# Altium integrated library TI Data Converters Digital to Analog Converter.IntLib: 1533 symbols (part 53 of 99)
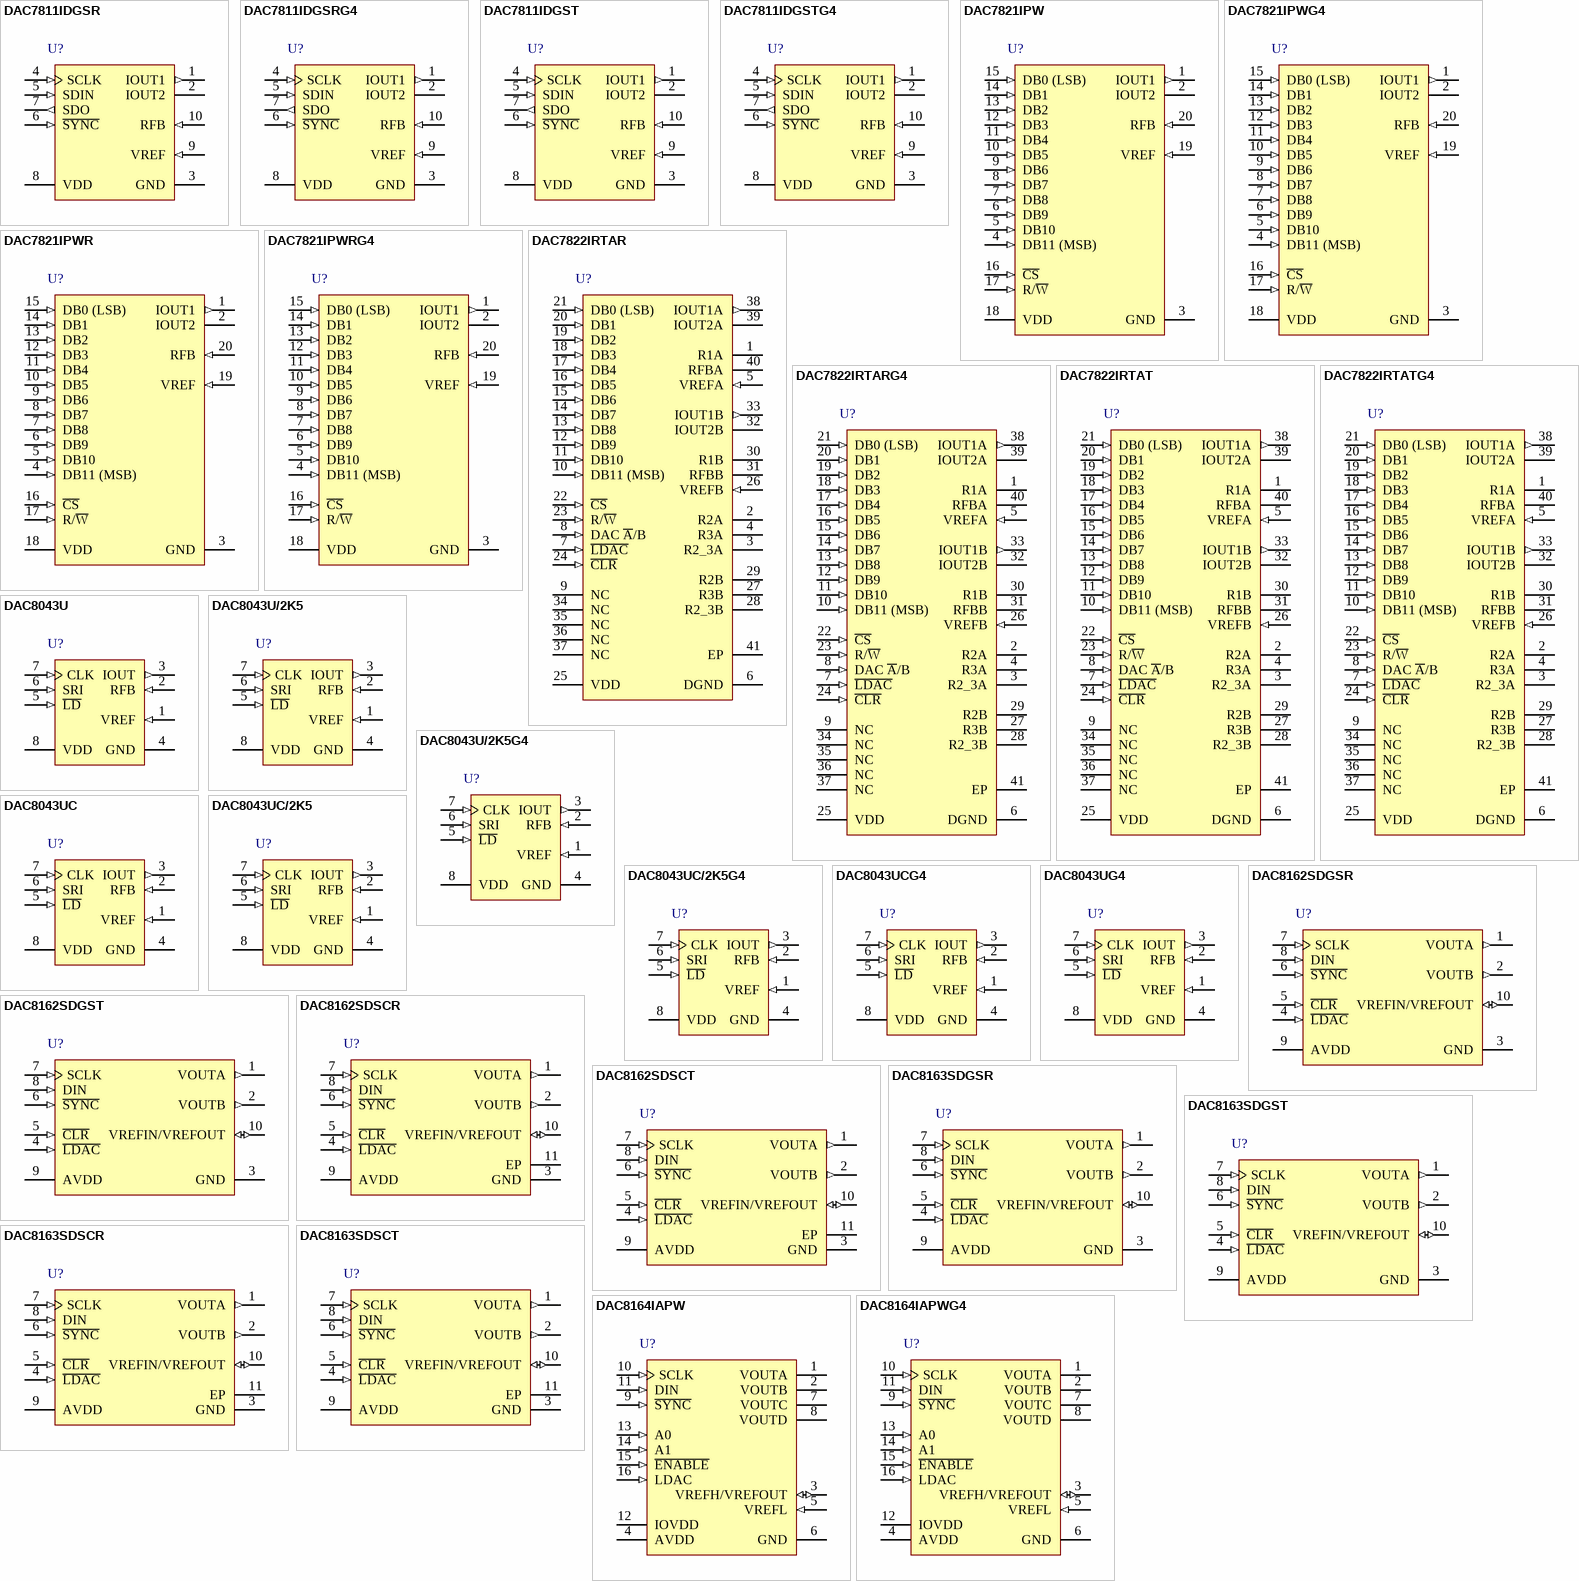
[diagram p125: symbols DAC7811IDGSR to DAC8164IAPWG4]

## DAC7821IPWRG4
designator U?
12-Bit, Parallel Input, Multiplying DAC, -40 to 125 degC, 20-pin SOP (PW20), Green (RoHS & no Sb/Br); Manufacturer: Texas Instruments; PartNumber: DAC7821IPWRG4; DAC Channels: 1; Power Consumption(Typ)(mW): 0.0275; Resolution(Bits): 12; Settling Time(us): 0.2; SubFamily: Precision DAC (=<10MSPS); DatasheetVersion: SBAS365B; PackageVersion: 4040064-5/G, 02/2011; PackageReference: PW20; PackageDescription: 20-Pin Plastic Small Outline, Body 6.5 x 4.4 mm, Pitch 0.65 mm; Supplier 1: Digi-Key; Supplier Part Number 1: DAC7821IPWRG4-ND; Supplier 2: Mouser; Supplier Part Number 2: 595-DAC7821IPWRG4; DNL(Max)(+/-LSB): 1; Eco-Plan: Green (RoHS & no Sb/Br); INL(Max)(+/-LSB): 1; Interface: Parallel; Mounting Technology: Surface Mount; Code_JEDEC: MO-153; ComponentLink1Description: Manufacturer URL; ComponentLink1URL: http://www.ti.com/; ComponentLink2Description: Datasheet; ComponentLink2URL: http://www.ti.com/general/docs/lit/getliterature.tsp?genericPartNumber=DAC7821&fileType=pdf; ComponentLink3Description: Package Specification; ComponentLink3URL: http://www.ti.com.cn/cn/lit/ml/mpds362/mpds362.pdf
footprint TI-PW20_N (SOP, 20-Leads, Body 6.5x4.4mm, Pitch 0.65mm, IPC Medium Density)
footprint TI-PW20_L (SOP, 20-Leads, Body 6.5x4.4mm, Pitch 0.65mm, IPC High Density)
footprint TI-PW20_M (SOP, 20-Leads, Body 6.5x4.4mm, Pitch 0.65mm, IPC Low Density)
pins: 1 IOUT1 (out) "DAC current output", 2 IOUT2 "DAC analog ground. This pin is normally tied to the analog ground of the system", 3 GND (power) "Ground pin.", 4 DB11 (MSB) (in) "Parallel data bits 11 to 0.", 5 DB10 (in) "Parallel data bits 11 to 0.", 6 DB9 (in) "Parallel data bits 11 to 0.", 7 DB8 (in) "Parallel data bits 11 to 0.", 8 DB7 (in) "Parallel data bits 11 to 0.", 9 DB6 (in) "Parallel data bits 11 to 0.", 10 DB5 (in) "Parallel data bits 11 to 0.", 11 DB4 (in) "Parallel data bits 11 to 0.", 12 DB3 (in) "Parallel data bits 11 to 0.", 13 DB2 (in) "Parallel data bits 11 to 0.", 14 DB1 (in) "Parallel data bits 11 to 0.", 15 DB0 (LSB) (in) "Parallel data bits 11 to 0.", 16 ~{CS} (in) "Chip select input. Active low. Used in conjunction with R/W\ to load parallel data to the input latch or read data from the DAC register. Rising edge of C\S\ loads data.", 17 R/~{W} (in) "Read/Write. When low, use in conjunction with C\S\ to load parallel data. When high, use with C\S\ to read back contents of DAC register.", 18 VDD (power) "Positive power supply input. These parts can be operated from a supply of 2.5V to 5.5V.", 19 VREF (in) "DAC reference voltage input", 20 RFB (in) "DAC feedback resistor pin. Establish voltage output for the DAC by connecting to external amplifier output."

## DAC7822IRTAR
designator U?
12-Bit, Dual Channel, Parallel Input, Multiplying DAC, -40 to 125 degC, 40-pin QFN (RTA40), Green (RoHS & no Sb/Br); Manufacturer: Texas Instruments; PartNumber: DAC7822IRTAR; DAC Channels: 2; DNL(Max)(+/-LSB): 1; Power Consumption(Typ)(mW): 0.0275; Resolution(Bits): 12; Settling Time(us): 0.2; SubFamily: Precision DAC (=<10MSPS); DatasheetVersion: SBAS374A; PackageVersion: 4204422/B, 11/2004; PackageReference: RTA40-4150X4150TP; PackageDescription: 40-Pin Plastic Quad Flatpack, Body 6 x 6 mm, Pitch 0.5 mm; Supplier 1: Digi-Key; Supplier Part Number 1: DAC7822IRTAR-ND; Supplier 2: Mouser; Supplier Part Number 2: 595-DAC7822IRTAR; Eco-Plan: Green (RoHS & no Sb/Br); INL(Max)(+/-LSB): 1; Interface: Parallel; Mounting Technology: Surface Mount; ComponentLink1Description: Manufacturer URL; ComponentLink1URL: http://www.ti.com/; ComponentLink2Description: Datasheet; ComponentLink2URL: http://www.ti.com/general/docs/lit/getliterature.tsp?genericPartNumber=DAC7822&fileType=pdf; ComponentLink3Description: Package Specification; ComponentLink3URL: http://www.ti.com/litv/pdf/mpqf134a
footprint TI-RTA40-4150X4150TP_V (QFN, 40-Leads, Body 6x6mm, Pitch 0.5mm, Thermal Pad 4.15x4.15mm)
pins: 1 R1A "DAC A 4-Quadrant Resistors. Allows a number of configuration modes, including bipolar operation with minimum of external components.", 2 R2A "DAC A 4-Quadrant Resistors. Allows a number of configuration modes, including bipolar operation with minimum of external components.", 3 R2_3A "DAC A 4-Quadrant Resistors. Allows a number of configuration modes, including bipolar operation with minimum of external components.", 4 R3A "DAC A 4-Quadrant Resistors. Allows a number of configuration modes, including bipolar operation with minimum of external components.", 5 VREFA (in) "DAC Reference Voltage Input Terminals.", 6 DGND (power) "Digital Ground Pin.", 7 ~{LDAC} (in) "Load DAC Input. Allows asynchronous or synchronous updates to the DAC output. The DAC is asynchronously updated when this signal goes low. Alternatively, if this line is held permanently low, an automatic or synchronous (See Datasheet)", 8 DAC ~{A}/B (in) "Selects DAC A or B. Low selects DAC A, and high selects DAC B.", 9 NC "Not internally connected.", 10 DB11 (MSB) (in) "Parallel Data Bits 11 through 0.", 11 DB10 (in) "Parallel Data Bits 11 through 0.", 12 DB9 (in) "Parallel Data Bits 11 through 0.", 13 DB8 (in) "Parallel Data Bits 11 through 0.", 14 DB7 (in) "Parallel Data Bits 11 through 0.", 15 DB6 (in) "Parallel Data Bits 11 through 0.", 16 DB5 (in) "Parallel Data Bits 11 through 0.", 17 DB4 (in) "Parallel Data Bits 11 through 0.", 18 DB3 (in) "Parallel Data Bits 11 through 0.", 19 DB2 (in) "Parallel Data Bits 11 through 0.", 20 DB1 (in) "Parallel Data Bits 11 through 0.", 21 DB0 (LSB) (in) "Parallel Data Bits 11 through 0.", 22 ~{CS} (in) "Chip Select Input; active low. Used in conjuction with R/W\ to load parallel data to the input latch or to read data from the DAC register. Edge sensitive; when pulled high, the DAC data is latched.", 23 R/~{W} (in) "Read/Write. When low, used in conjunction with C\S\ to load parallel data. When high, used in conjunction with C\S\ to read back contents of DAC register.", 24 ~{CLR} (in) "Active Low Control Input. Clears DAC output and input and DAC registers.", 25 VDD (power) "Positive Power Supply Input. These parts can be operated from a supply of 2.5V to 5.5V.", 26 VREFB (in) "DAC Reference Voltage Input Terminals.", 27 R3B "DAC B 4-Quadrant Resistors. Allow a number of configuration modes, including bipolar operation with a minimum of external components.", 28 R2_3B "DAC B 4-Quadrant Resistors. Allow a number of configuration modes, including bipolar operation with a minimum of external components.", 29 R2B "DAC B 4-Quadrant Resistors. Allow a number of configuration modes, including bipolar operation with a minimum of external components.", 30 R1B "DAC B 4-Quadrant Resistors. Allow a number of configuration modes, including bipolar operation with a minimum of external components.", 31 RFBB "External Amplifier Output.", 32 IOUT2B "DAC A Analog Ground. This pin typically should be tied to the analog ground of the system, but can be biased to achieve single-supply operation.", 33 IOUT1B (out) "DAC B Current Output.", 34 NC "Not internally connected.", 35 NC "Not internally connected.", 36 NC "Not internally connected.", 37 NC "Not internally connected.", 38 IOUT1A (out) "DAC A Current Output.", 39 IOUT2A "DAC A Analog Ground. This pin typically should be tied to the analog ground of the system, but can be biased to achieve single-supply operation.", 40 RFBA "External Amplifier Output.", 41 EP

## DAC7822IRTARG4
designator U?
12-Bit, Dual Channel, Parallel Input, Multiplying DAC, -40 to 125 degC, 40-pin QFN (RTA40), Green (RoHS & no Sb/Br); Manufacturer: Texas Instruments; PartNumber: DAC7822IRTARG4; DAC Channels: 2; DNL(Max)(+/-LSB): 1; Power Consumption(Typ)(mW): 0.0275; Resolution(Bits): 12; Settling Time(us): 0.2; SubFamily: Precision DAC (=<10MSPS); DatasheetVersion: SBAS374A; PackageVersion: 4204422/B, 11/2004; PackageReference: RTA40-4150X4150TP; PackageDescription: 40-Pin Plastic Quad Flatpack, Body 6 x 6 mm, Pitch 0.5 mm; Supplier 1: Digi-Key; Supplier Part Number 1: DAC7822IRTARG4-ND; Supplier 2: Mouser; Supplier Part Number 2: 595-DAC7822IRTARG4; Eco-Plan: Green (RoHS & no Sb/Br); INL(Max)(+/-LSB): 1; Interface: Parallel; Mounting Technology: Surface Mount; ComponentLink1Description: Manufacturer URL; ComponentLink1URL: http://www.ti.com/; ComponentLink2Description: Datasheet; ComponentLink2URL: http://www.ti.com/general/docs/lit/getliterature.tsp?genericPartNumber=DAC7822&fileType=pdf; ComponentLink3Description: Package Specification; ComponentLink3URL: http://www.ti.com/litv/pdf/mpqf134a
footprint TI-RTA40-4150X4150TP_V (QFN, 40-Leads, Body 6x6mm, Pitch 0.5mm, Thermal Pad 4.15x4.15mm)
pins: 1 R1A "DAC A 4-Quadrant Resistors. Allows a number of configuration modes, including bipolar operation with minimum of external components.", 2 R2A "DAC A 4-Quadrant Resistors. Allows a number of configuration modes, including bipolar operation with minimum of external components.", 3 R2_3A "DAC A 4-Quadrant Resistors. Allows a number of configuration modes, including bipolar operation with minimum of external components.", 4 R3A "DAC A 4-Quadrant Resistors. Allows a number of configuration modes, including bipolar operation with minimum of external components.", 5 VREFA (in) "DAC Reference Voltage Input Terminals.", 6 DGND (power) "Digital Ground Pin.", 7 ~{LDAC} (in) "Load DAC Input. Allows asynchronous or synchronous updates to the DAC output. The DAC is asynchronously updated when this signal goes low. Alternatively, if this line is held permanently low, an automatic or synchronous (See Datasheet)", 8 DAC ~{A}/B (in) "Selects DAC A or B. Low selects DAC A, and high selects DAC B.", 9 NC "Not internally connected.", 10 DB11 (MSB) (in) "Parallel Data Bits 11 through 0.", 11 DB10 (in) "Parallel Data Bits 11 through 0.", 12 DB9 (in) "Parallel Data Bits 11 through 0.", 13 DB8 (in) "Parallel Data Bits 11 through 0.", 14 DB7 (in) "Parallel Data Bits 11 through 0.", 15 DB6 (in) "Parallel Data Bits 11 through 0.", 16 DB5 (in) "Parallel Data Bits 11 through 0.", 17 DB4 (in) "Parallel Data Bits 11 through 0.", 18 DB3 (in) "Parallel Data Bits 11 through 0.", 19 DB2 (in) "Parallel Data Bits 11 through 0.", 20 DB1 (in) "Parallel Data Bits 11 through 0.", 21 DB0 (LSB) (in) "Parallel Data Bits 11 through 0.", 22 ~{CS} (in) "Chip Select Input; active low. Used in conjuction with R/W\ to load parallel data to the input latch or to read data from the DAC register. Edge sensitive; when pulled high, the DAC data is latched.", 23 R/~{W} (in) "Read/Write. When low, used in conjunction with C\S\ to load parallel data. When high, used in conjunction with C\S\ to read back contents of DAC register.", 24 ~{CLR} (in) "Active Low Control Input. Clears DAC output and input and DAC registers.", 25 VDD (power) "Positive Power Supply Input. These parts can be operated from a supply of 2.5V to 5.5V.", 26 VREFB (in) "DAC Reference Voltage Input Terminals.", 27 R3B "DAC B 4-Quadrant Resistors. Allow a number of configuration modes, including bipolar operation with a minimum of external components.", 28 R2_3B "DAC B 4-Quadrant Resistors. Allow a number of configuration modes, including bipolar operation with a minimum of external components.", 29 R2B "DAC B 4-Quadrant Resistors. Allow a number of configuration modes, including bipolar operation with a minimum of external components.", 30 R1B "DAC B 4-Quadrant Resistors. Allow a number of configuration modes, including bipolar operation with a minimum of external components.", 31 RFBB "External Amplifier Output.", 32 IOUT2B "DAC A Analog Ground. This pin typically should be tied to the analog ground of the system, but can be biased to achieve single-supply operation.", 33 IOUT1B (out) "DAC B Current Output.", 34 NC "Not internally connected.", 35 NC "Not internally connected.", 36 NC "Not internally connected.", 37 NC "Not internally connected.", 38 IOUT1A (out) "DAC A Current Output.", 39 IOUT2A "DAC A Analog Ground. This pin typically should be tied to the analog ground of the system, but can be biased to achieve single-supply operation.", 40 RFBA "External Amplifier Output.", 41 EP

## DAC7822IRTAT
designator U?
12-Bit, Dual Channel, Parallel Input, Multiplying DAC, -40 to 125 degC, 40-pin QFN (RTA40), Green (RoHS & no Sb/Br); Manufacturer: Texas Instruments; PartNumber: DAC7822IRTAT; DAC Channels: 2; DNL(Max)(+/-LSB): 1; Power Consumption(Typ)(mW): 0.0275; Resolution(Bits): 12; Settling Time(us): 0.2; SubFamily: Precision DAC (=<10MSPS); DatasheetVersion: SBAS374A; PackageVersion: 4204422/B, 11/2004; PackageReference: RTA40-4150X4150TP; PackageDescription: 40-Pin Plastic Quad Flatpack, Body 6 x 6 mm, Pitch 0.5 mm; Supplier 1: Digi-Key; Supplier Part Number 1: 296-20636-2-ND; Supplier 2: Digi-Key; Supplier Part Number 2: 296-20636-1-ND; Supplier 3: Newark; Supplier Part Number 3: 02M9392; Supplier 4: Mouser; Supplier Part Number 4: 595-DAC7822IRTAT; Eco-Plan: Green (RoHS & no Sb/Br); INL(Max)(+/-LSB): 1; Interface: Parallel; Mounting Technology: Surface Mount; ComponentLink1Description: Manufacturer URL; ComponentLink1URL: http://www.ti.com/; ComponentLink2Description: Datasheet; ComponentLink2URL: http://www.ti.com/general/docs/lit/getliterature.tsp?genericPartNumber=DAC7822&fileType=pdf; ComponentLink3Description: Package Specification; ComponentLink3URL: http://www.ti.com/litv/pdf/mpqf134a
footprint TI-RTA40-4150X4150TP_V (QFN, 40-Leads, Body 6x6mm, Pitch 0.5mm, Thermal Pad 4.15x4.15mm)
pins: 1 R1A "DAC A 4-Quadrant Resistors. Allows a number of configuration modes, including bipolar operation with minimum of external components.", 2 R2A "DAC A 4-Quadrant Resistors. Allows a number of configuration modes, including bipolar operation with minimum of external components.", 3 R2_3A "DAC A 4-Quadrant Resistors. Allows a number of configuration modes, including bipolar operation with minimum of external components.", 4 R3A "DAC A 4-Quadrant Resistors. Allows a number of configuration modes, including bipolar operation with minimum of external components.", 5 VREFA (in) "DAC Reference Voltage Input Terminals.", 6 DGND (power) "Digital Ground Pin.", 7 ~{LDAC} (in) "Load DAC Input. Allows asynchronous or synchronous updates to the DAC output. The DAC is asynchronously updated when this signal goes low. Alternatively, if this line is held permanently low, an automatic or synchronous (See Datasheet)", 8 DAC ~{A}/B (in) "Selects DAC A or B. Low selects DAC A, and high selects DAC B.", 9 NC "Not internally connected.", 10 DB11 (MSB) (in) "Parallel Data Bits 11 through 0.", 11 DB10 (in) "Parallel Data Bits 11 through 0.", 12 DB9 (in) "Parallel Data Bits 11 through 0.", 13 DB8 (in) "Parallel Data Bits 11 through 0.", 14 DB7 (in) "Parallel Data Bits 11 through 0.", 15 DB6 (in) "Parallel Data Bits 11 through 0.", 16 DB5 (in) "Parallel Data Bits 11 through 0.", 17 DB4 (in) "Parallel Data Bits 11 through 0.", 18 DB3 (in) "Parallel Data Bits 11 through 0.", 19 DB2 (in) "Parallel Data Bits 11 through 0.", 20 DB1 (in) "Parallel Data Bits 11 through 0.", 21 DB0 (LSB) (in) "Parallel Data Bits 11 through 0.", 22 ~{CS} (in) "Chip Select Input; active low. Used in conjuction with R/W\ to load parallel data to the input latch or to read data from the DAC register. Edge sensitive; when pulled high, the DAC data is latched.", 23 R/~{W} (in) "Read/Write. When low, used in conjunction with C\S\ to load parallel data. When high, used in conjunction with C\S\ to read back contents of DAC register.", 24 ~{CLR} (in) "Active Low Control Input. Clears DAC output and input and DAC registers.", 25 VDD (power) "Positive Power Supply Input. These parts can be operated from a supply of 2.5V to 5.5V.", 26 VREFB (in) "DAC Reference Voltage Input Terminals.", 27 R3B "DAC B 4-Quadrant Resistors. Allow a number of configuration modes, including bipolar operation with a minimum of external components.", 28 R2_3B "DAC B 4-Quadrant Resistors. Allow a number of configuration modes, including bipolar operation with a minimum of external components.", 29 R2B "DAC B 4-Quadrant Resistors. Allow a number of configuration modes, including bipolar operation with a minimum of external components.", 30 R1B "DAC B 4-Quadrant Resistors. Allow a number of configuration modes, including bipolar operation with a minimum of external components.", 31 RFBB "External Amplifier Output.", 32 IOUT2B "DAC A Analog Ground. This pin typically should be tied to the analog ground of the system, but can be biased to achieve single-supply operation.", 33 IOUT1B (out) "DAC B Current Output.", 34 NC "Not internally connected.", 35 NC "Not internally connected.", 36 NC "Not internally connected.", 37 NC "Not internally connected.", 38 IOUT1A (out) "DAC A Current Output.", 39 IOUT2A "DAC A Analog Ground. This pin typically should be tied to the analog ground of the system, but can be biased to achieve single-supply operation.", 40 RFBA "External Amplifier Output.", 41 EP

## DAC7822IRTATG4
designator U?
12-Bit, Dual Channel, Parallel Input, Multiplying DAC, -40 to 125 degC, 40-pin QFN (RTA40), Green (RoHS & no Sb/Br); Manufacturer: Texas Instruments; PartNumber: DAC7822IRTATG4; DAC Channels: 2; DNL(Max)(+/-LSB): 1; Power Consumption(Typ)(mW): 0.0275; Resolution(Bits): 12; Settling Time(us): 0.2; SubFamily: Precision DAC (=<10MSPS); DatasheetVersion: SBAS374A; PackageVersion: 4204422/B, 11/2004; PackageReference: RTA40-4150X4150TP; PackageDescription: 40-Pin Plastic Quad Flatpack, Body 6 x 6 mm, Pitch 0.5 mm; Supplier 1: Digi-Key; Supplier Part Number 1: DAC7822IRTATG4-ND; Supplier 2: Farnell; Supplier Part Number 2: 1390690; Supplier 3: Mouser; Supplier Part Number 3: 595-DAC7822IRTATG4; Eco-Plan: Green (RoHS & no Sb/Br); INL(Max)(+/-LSB): 1; Interface: Parallel; Mounting Technology: Surface Mount; ComponentLink1Description: Manufacturer URL; ComponentLink1URL: http://www.ti.com/; ComponentLink2Description: Datasheet; ComponentLink2URL: http://www.ti.com/general/docs/lit/getliterature.tsp?genericPartNumber=DAC7822&fileType=pdf; ComponentLink3Description: Package Specification; ComponentLink3URL: http://www.ti.com/litv/pdf/mpqf134a
footprint TI-RTA40-4150X4150TP_V (QFN, 40-Leads, Body 6x6mm, Pitch 0.5mm, Thermal Pad 4.15x4.15mm)
pins: 1 R1A "DAC A 4-Quadrant Resistors. Allows a number of configuration modes, including bipolar operation with minimum of external components.", 2 R2A "DAC A 4-Quadrant Resistors. Allows a number of configuration modes, including bipolar operation with minimum of external components.", 3 R2_3A "DAC A 4-Quadrant Resistors. Allows a number of configuration modes, including bipolar operation with minimum of external components.", 4 R3A "DAC A 4-Quadrant Resistors. Allows a number of configuration modes, including bipolar operation with minimum of external components.", 5 VREFA (in) "DAC Reference Voltage Input Terminals.", 6 DGND (power) "Digital Ground Pin.", 7 ~{LDAC} (in) "Load DAC Input. Allows asynchronous or synchronous updates to the DAC output. The DAC is asynchronously updated when this signal goes low. Alternatively, if this line is held permanently low, an automatic or synchronous (See Datasheet)", 8 DAC ~{A}/B (in) "Selects DAC A or B. Low selects DAC A, and high selects DAC B.", 9 NC "Not internally connected.", 10 DB11 (MSB) (in) "Parallel Data Bits 11 through 0.", 11 DB10 (in) "Parallel Data Bits 11 through 0.", 12 DB9 (in) "Parallel Data Bits 11 through 0.", 13 DB8 (in) "Parallel Data Bits 11 through 0.", 14 DB7 (in) "Parallel Data Bits 11 through 0.", 15 DB6 (in) "Parallel Data Bits 11 through 0.", 16 DB5 (in) "Parallel Data Bits 11 through 0.", 17 DB4 (in) "Parallel Data Bits 11 through 0.", 18 DB3 (in) "Parallel Data Bits 11 through 0.", 19 DB2 (in) "Parallel Data Bits 11 through 0.", 20 DB1 (in) "Parallel Data Bits 11 through 0.", 21 DB0 (LSB) (in) "Parallel Data Bits 11 through 0.", 22 ~{CS} (in) "Chip Select Input; active low. Used in conjuction with R/W\ to load parallel data to the input latch or to read data from the DAC register. Edge sensitive; when pulled high, the DAC data is latched.", 23 R/~{W} (in) "Read/Write. When low, used in conjunction with C\S\ to load parallel data. When high, used in conjunction with C\S\ to read back contents of DAC register.", 24 ~{CLR} (in) "Active Low Control Input. Clears DAC output and input and DAC registers.", 25 VDD (power) "Positive Power Supply Input. These parts can be operated from a supply of 2.5V to 5.5V.", 26 VREFB (in) "DAC Reference Voltage Input Terminals.", 27 R3B "DAC B 4-Quadrant Resistors. Allow a number of configuration modes, including bipolar operation with a minimum of external components.", 28 R2_3B "DAC B 4-Quadrant Resistors. Allow a number of configuration modes, including bipolar operation with a minimum of external components.", 29 R2B "DAC B 4-Quadrant Resistors. Allow a number of configuration modes, including bipolar operation with a minimum of external components.", 30 R1B "DAC B 4-Quadrant Resistors. Allow a number of configuration modes, including bipolar operation with a minimum of external components.", 31 RFBB "External Amplifier Output.", 32 IOUT2B "DAC A Analog Ground. This pin typically should be tied to the analog ground of the system, but can be biased to achieve single-supply operation.", 33 IOUT1B (out) "DAC B Current Output.", 34 NC "Not internally connected.", 35 NC "Not internally connected.", 36 NC "Not internally connected.", 37 NC "Not internally connected.", 38 IOUT1A (out) "DAC A Current Output.", 39 IOUT2A "DAC A Analog Ground. This pin typically should be tied to the analog ground of the system, but can be biased to achieve single-supply operation.", 40 RFBA "External Amplifier Output.", 41 EP

## DAC8043U
designator U?
CMOS 12-Bit Serial Input Mulitplying DAC, -40 to 85 degC, 8-pin SOIC (D8), Green (RoHS & no Sb/Br); Manufacturer: Texas Instruments; PartNumber: DAC8043U; DAC Channels: 1; Interface: Serial SPI; Power Consumption(Typ)(mW): 2.5; Resolution(Bits): 12; Settling Time(us): 0.25; SubFamily: Precision DAC (=<10MSPS); DatasheetVersion: SBAS028; PackageVersion: 4040047-3/M, 06/2011; PackageReference: D8; PackageDescription: 8-Pin Plastic Small Outline, Body 4.9 x 3.9 mm, Pitch 1.27 mm; Supplier 1: Digi-Key; Supplier Part Number 1: DAC8043U-ND; Supplier 2: Newark; Supplier Part Number 2: 17M6576; Supplier 3: Mouser; Supplier Part Number 3: 595-DAC8043U; DNL(Max)(+/-LSB): 1; Eco-Plan: Green (RoHS & no Sb/Br); INL(Max)(+/-LSB): 1; Mounting Technology: Surface Mount; Code_JEDEC: MS-012; ComponentLink1Description: Manufacturer URL; ComponentLink1URL: http://www.ti.com/; ComponentLink2Description: Datasheet; ComponentLink2URL: http://www.ti.com/general/docs/lit/getliterature.tsp?genericPartNumber=DAC8043&fileType=pdf; ComponentLink3Description: Package Specification; ComponentLink3URL: http://www.ti.com/litv/pdf/msoi002j
footprint TI-D8_N (SOIC, 8-Leads, Body 4.9x3.9mm, Pitch 1.27mm, IPC Medium Density)
footprint TI-D8_L (SOIC, 8-Leads, Body 4.9x3.9mm, Pitch 1.27mm, IPC High Density)
footprint TI-D8_M (SOIC, 8-Leads, Body 4.9x3.9mm, Pitch 1.27mm, IPC Low Density)
pins: 1 VREF (in), 2 RFB (in), 3 IOUT (out), 4 GND (power), 5 ~{LD} (in), 6 SRI (in), 7 CLK (in), 8 VDD (power)

## DAC8043U/2K5
designator U?
CMOS 12-Bit Serial Input Mulitplying DAC, -40 to 85 degC, 8-pin SOIC (D8), Green (RoHS & no Sb/Br); Manufacturer: Texas Instruments; PartNumber: DAC8043U/2K5; DAC Channels: 1; Interface: Serial SPI; Power Consumption(Typ)(mW): 2.5; Resolution(Bits): 12; Settling Time(us): 0.25; SubFamily: Precision DAC (=<10MSPS); DatasheetVersion: SBAS028; PackageVersion: 4040047-3/M, 06/2011; PackageReference: D8; PackageDescription: 8-Pin Plastic Small Outline, Body 4.9 x 3.9 mm, Pitch 1.27 mm; Supplier 1: Digi-Key; Supplier Part Number 1: DAC8043U/2K5-ND; Supplier 2: Newark; Supplier Part Number 2: 61H5072; Supplier 3: Mouser; Supplier Part Number 3: 595-DAC8043U/2K5; DNL(Max)(+/-LSB): 1; Eco-Plan: Green (RoHS & no Sb/Br); INL(Max)(+/-LSB): 1; Mounting Technology: Surface Mount; Code_JEDEC: MS-012; ComponentLink1Description: Manufacturer URL; ComponentLink1URL: http://www.ti.com/; ComponentLink2Description: Datasheet; ComponentLink2URL: http://www.ti.com/general/docs/lit/getliterature.tsp?genericPartNumber=DAC8043&fileType=pdf; ComponentLink3Description: Package Specification; ComponentLink3URL: http://www.ti.com/litv/pdf/msoi002j
footprint TI-D8_N (SOIC, 8-Leads, Body 4.9x3.9mm, Pitch 1.27mm, IPC Medium Density)
footprint TI-D8_L (SOIC, 8-Leads, Body 4.9x3.9mm, Pitch 1.27mm, IPC High Density)
footprint TI-D8_M (SOIC, 8-Leads, Body 4.9x3.9mm, Pitch 1.27mm, IPC Low Density)
pins: 1 VREF (in), 2 RFB (in), 3 IOUT (out), 4 GND (power), 5 ~{LD} (in), 6 SRI (in), 7 CLK (in), 8 VDD (power)

## DAC8043U/2K5G4
designator U?
CMOS 12-Bit Serial Input Mulitplying DAC, -40 to 85 degC, 8-pin SOIC (D8), Green (RoHS & no Sb/Br); Manufacturer: Texas Instruments; PartNumber: DAC8043U/2K5G4; DAC Channels: 1; Interface: Serial SPI; Power Consumption(Typ)(mW): 2.5; Resolution(Bits): 12; Settling Time(us): 0.25; SubFamily: Precision DAC (=<10MSPS); DatasheetVersion: SBAS028; PackageVersion: 4040047-3/M, 06/2011; PackageReference: D8; PackageDescription: 8-Pin Plastic Small Outline, Body 4.9 x 3.9 mm, Pitch 1.27 mm; Supplier 1: Digi-Key; Supplier Part Number 1: DAC8043U/2K5G4-ND; Supplier 2: Newark; Supplier Part Number 2: 14M1952; Supplier 3: Mouser; Supplier Part Number 3: 595-DAC8043U/2K5G4; DNL(Max)(+/-LSB): 1; Eco-Plan: Green (RoHS & no Sb/Br); INL(Max)(+/-LSB): 1; Mounting Technology: Surface Mount; Code_JEDEC: MS-012; ComponentLink1Description: Manufacturer URL; ComponentLink1URL: http://www.ti.com/; ComponentLink2Description: Datasheet; ComponentLink2URL: http://www.ti.com/general/docs/lit/getliterature.tsp?genericPartNumber=DAC8043&fileType=pdf; ComponentLink3Description: Package Specification; ComponentLink3URL: http://www.ti.com/litv/pdf/msoi002j
footprint TI-D8_N (SOIC, 8-Leads, Body 4.9x3.9mm, Pitch 1.27mm, IPC Medium Density)
footprint TI-D8_L (SOIC, 8-Leads, Body 4.9x3.9mm, Pitch 1.27mm, IPC High Density)
footprint TI-D8_M (SOIC, 8-Leads, Body 4.9x3.9mm, Pitch 1.27mm, IPC Low Density)
pins: 1 VREF (in), 2 RFB (in), 3 IOUT (out), 4 GND (power), 5 ~{LD} (in), 6 SRI (in), 7 CLK (in), 8 VDD (power)

## DAC8043UC
designator U?
CMOS 12-Bit Serial Input Mulitplying DAC, -40 to 85 degC, 8-pin SOIC (D8), Green (RoHS & no Sb/Br); Manufacturer: Texas Instruments; PartNumber: DAC8043UC; DAC Channels: 1; DNL(Max)(+/-LSB): 0.5; Interface: Serial SPI; Power Consumption(Typ)(mW): 2.5; Resolution(Bits): 12; Settling Time(us): 0.25; SubFamily: Precision DAC (=<10MSPS); DatasheetVersion: SBAS028; PackageVersion: 4040047-3/M, 06/2011; PackageReference: D8; PackageDescription: 8-Pin Plastic Small Outline, Body 4.9 x 3.9 mm, Pitch 1.27 mm; Supplier 1: Digi-Key; Supplier Part Number 1: DAC8043UC-ND; Supplier 2: Farnell; Supplier Part Number 2: 1460245; Supplier 3: Newark; Supplier Part Number 3: 35C1661; Supplier 4: Mouser; Supplier Part Number 4: 595-DAC8043UC; Eco-Plan: Green (RoHS & no Sb/Br); INL(Max)(+/-LSB): 0.5; Mounting Technology: Surface Mount; Code_JEDEC: MS-012; ComponentLink1Description: Manufacturer URL; ComponentLink1URL: http://www.ti.com/; ComponentLink2Description: Datasheet; ComponentLink2URL: http://www.ti.com/general/docs/lit/getliterature.tsp?genericPartNumber=DAC8043&fileType=pdf; ComponentLink3Description: Package Specification; ComponentLink3URL: http://www.ti.com/litv/pdf/msoi002j
footprint TI-D8_N (SOIC, 8-Leads, Body 4.9x3.9mm, Pitch 1.27mm, IPC Medium Density)
footprint TI-D8_L (SOIC, 8-Leads, Body 4.9x3.9mm, Pitch 1.27mm, IPC High Density)
footprint TI-D8_M (SOIC, 8-Leads, Body 4.9x3.9mm, Pitch 1.27mm, IPC Low Density)
pins: 1 VREF (in), 2 RFB (in), 3 IOUT (out), 4 GND (power), 5 ~{LD} (in), 6 SRI (in), 7 CLK (in), 8 VDD (power)

## DAC8043UC/2K5
designator U?
CMOS 12-Bit Serial Input Mulitplying DAC, -40 to 85 degC, 8-pin SOIC (D8), Green (RoHS & no Sb/Br); Manufacturer: Texas Instruments; PartNumber: DAC8043UC/2K5; DAC Channels: 1; DNL(Max)(+/-LSB): 0.5; Interface: Serial SPI; Power Consumption(Typ)(mW): 2.5; Resolution(Bits): 12; Settling Time(us): 0.25; SubFamily: Precision DAC (=<10MSPS); DatasheetVersion: SBAS028; PackageVersion: 4040047-3/M, 06/2011; PackageReference: D8; PackageDescription: 8-Pin Plastic Small Outline, Body 4.9 x 3.9 mm, Pitch 1.27 mm; Supplier 1: Digi-Key; Supplier Part Number 1: DAC8043UC/2K5-ND; Supplier 2: Newark; Supplier Part Number 2: 61H5073; Supplier 3: Mouser; Supplier Part Number 3: 595-DAC8043UC/2K5; Eco-Plan: Green (RoHS & no Sb/Br); INL(Max)(+/-LSB): 0.5; Mounting Technology: Surface Mount; Code_JEDEC: MS-012; ComponentLink1Description: Manufacturer URL; ComponentLink1URL: http://www.ti.com/; ComponentLink2Description: Datasheet; ComponentLink2URL: http://www.ti.com/general/docs/lit/getliterature.tsp?genericPartNumber=DAC8043&fileType=pdf; ComponentLink3Description: Package Specification; ComponentLink3URL: http://www.ti.com/litv/pdf/msoi002j
footprint TI-D8_N (SOIC, 8-Leads, Body 4.9x3.9mm, Pitch 1.27mm, IPC Medium Density)
footprint TI-D8_L (SOIC, 8-Leads, Body 4.9x3.9mm, Pitch 1.27mm, IPC High Density)
footprint TI-D8_M (SOIC, 8-Leads, Body 4.9x3.9mm, Pitch 1.27mm, IPC Low Density)
pins: 1 VREF (in), 2 RFB (in), 3 IOUT (out), 4 GND (power), 5 ~{LD} (in), 6 SRI (in), 7 CLK (in), 8 VDD (power)

## DAC8043UC/2K5G4
designator U?
CMOS 12-Bit Serial Input Mulitplying DAC, -40 to 85 degC, 8-pin SOIC (D8), Green (RoHS & no Sb/Br); Manufacturer: Texas Instruments; PartNumber: DAC8043UC/2K5G4; DAC Channels: 1; DNL(Max)(+/-LSB): 0.5; Interface: Serial SPI; Power Consumption(Typ)(mW): 2.5; Resolution(Bits): 12; Settling Time(us): 0.25; SubFamily: Precision DAC (=<10MSPS); DatasheetVersion: SBAS028; PackageVersion: 4040047-3/M, 06/2011; PackageReference: D8; PackageDescription: 8-Pin Plastic Small Outline, Body 4.9 x 3.9 mm, Pitch 1.27 mm; Supplier 1: Digi-Key; Supplier Part Number 1: DAC8043UC/2K5G4-ND; Supplier 2: Newark; Supplier Part Number 2: 30M0654; Supplier 3: Mouser; Supplier Part Number 3: 595-DAC8043UC/2K5G4; Eco-Plan: Green (RoHS & no Sb/Br); INL(Max)(+/-LSB): 0.5; Mounting Technology: Surface Mount; Code_JEDEC: MS-012; ComponentLink1Description: Manufacturer URL; ComponentLink1URL: http://www.ti.com/; ComponentLink2Description: Datasheet; ComponentLink2URL: http://www.ti.com/general/docs/lit/getliterature.tsp?genericPartNumber=DAC8043&fileType=pdf; ComponentLink3Description: Package Specification; ComponentLink3URL: http://www.ti.com/litv/pdf/msoi002j
footprint TI-D8_N (SOIC, 8-Leads, Body 4.9x3.9mm, Pitch 1.27mm, IPC Medium Density)
footprint TI-D8_L (SOIC, 8-Leads, Body 4.9x3.9mm, Pitch 1.27mm, IPC High Density)
footprint TI-D8_M (SOIC, 8-Leads, Body 4.9x3.9mm, Pitch 1.27mm, IPC Low Density)
pins: 1 VREF (in), 2 RFB (in), 3 IOUT (out), 4 GND (power), 5 ~{LD} (in), 6 SRI (in), 7 CLK (in), 8 VDD (power)

## DAC8043UCG4
designator U?
CMOS 12-Bit Serial Input Mulitplying DAC, -40 to 85 degC, 8-pin SOIC (D8), Green (RoHS & no Sb/Br); Manufacturer: Texas Instruments; PartNumber: DAC8043UCG4; DAC Channels: 1; DNL(Max)(+/-LSB): 0.5; Interface: Serial SPI; Power Consumption(Typ)(mW): 2.5; Resolution(Bits): 12; Settling Time(us): 0.25; SubFamily: Precision DAC (=<10MSPS); DatasheetVersion: SBAS028; PackageVersion: 4040047-3/M, 06/2011; PackageReference: D8; PackageDescription: 8-Pin Plastic Small Outline, Body 4.9 x 3.9 mm, Pitch 1.27 mm; Supplier 1: Digi-Key; Supplier Part Number 1: DAC8043UCG4-ND; Supplier 2: Newark; Supplier Part Number 2: 60M1640; Supplier 3: Mouser; Supplier Part Number 3: 595-DAC8043UCG4; Eco-Plan: Green (RoHS & no Sb/Br); INL(Max)(+/-LSB): 0.5; Mounting Technology: Surface Mount; Code_JEDEC: MS-012; ComponentLink1Description: Manufacturer URL; ComponentLink1URL: http://www.ti.com/; ComponentLink2Description: Datasheet; ComponentLink2URL: http://www.ti.com/general/docs/lit/getliterature.tsp?genericPartNumber=DAC8043&fileType=pdf; ComponentLink3Description: Package Specification; ComponentLink3URL: http://www.ti.com/litv/pdf/msoi002j
footprint TI-D8_N (SOIC, 8-Leads, Body 4.9x3.9mm, Pitch 1.27mm, IPC Medium Density)
footprint TI-D8_L (SOIC, 8-Leads, Body 4.9x3.9mm, Pitch 1.27mm, IPC High Density)
footprint TI-D8_M (SOIC, 8-Leads, Body 4.9x3.9mm, Pitch 1.27mm, IPC Low Density)
pins: 1 VREF (in), 2 RFB (in), 3 IOUT (out), 4 GND (power), 5 ~{LD} (in), 6 SRI (in), 7 CLK (in), 8 VDD (power)

## DAC8043UG4
designator U?
CMOS 12-Bit Serial Input Mulitplying DAC, -40 to 85 degC, 8-pin SOIC (D8), Green (RoHS & no Sb/Br); Manufacturer: Texas Instruments; PartNumber: DAC8043UG4; DAC Channels: 1; Interface: Serial SPI; Power Consumption(Typ)(mW): 2.5; Resolution(Bits): 12; Settling Time(us): 0.25; SubFamily: Precision DAC (=<10MSPS); DatasheetVersion: SBAS028; PackageVersion: 4040047-3/M, 06/2011; PackageReference: D8; PackageDescription: 8-Pin Plastic Small Outline, Body 4.9 x 3.9 mm, Pitch 1.27 mm; Supplier 1: Digi-Key; Supplier Part Number 1: DAC8043UG4-ND; Supplier 2: Newark; Supplier Part Number 2: 14M1953; Supplier 3: Mouser; Supplier Part Number 3: 595-DAC8043UG4; DNL(Max)(+/-LSB): 1; Eco-Plan: Green (RoHS & no Sb/Br); INL(Max)(+/-LSB): 1; Mounting Technology: Surface Mount; Code_JEDEC: MS-012; ComponentLink1Description: Manufacturer URL; ComponentLink1URL: http://www.ti.com/; ComponentLink2Description: Datasheet; ComponentLink2URL: http://www.ti.com/general/docs/lit/getliterature.tsp?genericPartNumber=DAC8043&fileType=pdf; ComponentLink3Description: Package Specification; ComponentLink3URL: http://www.ti.com/litv/pdf/msoi002j
footprint TI-D8_N (SOIC, 8-Leads, Body 4.9x3.9mm, Pitch 1.27mm, IPC Medium Density)
footprint TI-D8_L (SOIC, 8-Leads, Body 4.9x3.9mm, Pitch 1.27mm, IPC High Density)
footprint TI-D8_M (SOIC, 8-Leads, Body 4.9x3.9mm, Pitch 1.27mm, IPC Low Density)
pins: 1 VREF (in), 2 RFB (in), 3 IOUT (out), 4 GND (power), 5 ~{LD} (in), 6 SRI (in), 7 CLK (in), 8 VDD (power)

## DAC8162SDGSR
designator U?
14-Bit, Dual, Low Power, Ultra-Low Glitch, Buffered Voltage Output DAC with 2.5 V, 4 ppm/degC Reference, -40 to 125 degC, 10-pin SOP (DGS10), Green (RoHS & no Sb/Br); Manufacturer: Texas Instruments; PartNumber: DAC8162SDGSR; DAC Channels: 2; DNL(Max)(+/-LSB): 0.5; INL(Max)(+/-LSB): 3; Interface: Serial SPI; Power Consumption(Typ)(mW): 0.9; Resolution(Bits): 14; Settling Time(us): 7; SubFamily: Precision DAC (=<10MSPS); DatasheetVersion: SLAS719D; PackageVersion: 4073272/C, 02/2004; PackageReference: DGS10; PackageDescription: 10-Pin Plastic Small Outline, Body 3 x 3 mm, Pitch 0.5 mm; Supplier 1: Digi-Key; Supplier Part Number 1: 296-29026-2-ND; Supplier 2: Digi-Key; Supplier Part Number 2: 296-29026-1-ND; Supplier 3: Digi-Key; Supplier Part Number 3: 296-29026-6-ND; Supplier 4: Newark; Supplier Part Number 4: 52T7718; Supplier 5: Mouser; Supplier Part Number 5: 595-DAC8162SDGSR; Eco-Plan: Green (RoHS & no Sb/Br); Mounting Technology: Surface Mount; Code_JEDEC: MO-153; ComponentLink1Description: Manufacturer URL; ComponentLink1URL: http://www.ti.com/; ComponentLink2Description: Datasheet; ComponentLink2URL: http://www.ti.com/general/docs/lit/getliterature.tsp?genericPartNumber=DAC8162&fileType=pdf; ComponentLink3Description: Package Specification; ComponentLink3URL: http://www.ti.com/lit/ml/mpds035b/mpds035b.pdf
footprint TI-DGS10_N (SOP, 10-Leads, Body 3x3mm, Pitch 0.5mm, IPC Medium Density)
footprint TI-DGS10_L (SOP, 10-Leads, Body 3x3mm, Pitch 0.5mm, IPC High Density)
footprint TI-DGS10_M (SOP, 10-Leads, Body 3x3mm, Pitch 0.5mm, IPC Low Density)
pins: 1 VOUTA (out) "Analog output voltage from DAC-A", 2 VOUTB (out) "Analog output voltage from DAC-B", 3 GND (power) "Ground reference point for all circuitry on the device", 4 ~{LDAC} (in) "In synchronous mode, data are updated with the falling edge of the 24th SCLK cycle, which follows a falling edge of S\Y\N\C\. For such synchronous updates, the L\D\A\C\ pin is not required, and it must be connected to GND (See Datasheet)", 5 ~{CLR} (in) "Asynchronous clear input. The C\L\R\ input is falling-edge sensitive. When C\L\R\ is activated, zero scale (DACxx62) or mid-scale (DACxx63) is loaded to all input and DAC registers. This sets the DAC output voltages (See Datasheet)", 6 ~{SYNC} (in) "Level-triggered control input (active-low). This input is the frame synchronization signal for the input data. When S\Y\N\C\ goes low, it enables the input shift register, and data are sampled on subsequent falling clock (See Datasheet)", 7 SCLK (in) "Serial clock input. Data can be transferred at rates up to 50 MHz. Schmitt-trigger logic input", 8 DIN (in) "Serial data input. Data are clocked into the 24-bit input shift register on each falling edge of the serial clock input. Schmitt-trigger logic input", 9 AVDD (power) "Power-supply input, 2.7 V to 5.5 V", 10 VREFIN/VREFOUT (io) "Bidirectional voltage reference pin. If internal reference is used, 2.5-V output."

## DAC8162SDGST
designator U?
14-Bit, Dual, Low Power, Ultra-Low Glitch, Buffered Voltage Output DAC with 2.5 V, 4 ppm/degC Reference, -40 to 125 degC, 10-pin SOP (DGS10), Green (RoHS & no Sb/Br); Manufacturer: Texas Instruments; PartNumber: DAC8162SDGST; DAC Channels: 2; DNL(Max)(+/-LSB): 0.5; INL(Max)(+/-LSB): 3; Interface: Serial SPI; Power Consumption(Typ)(mW): 0.9; Resolution(Bits): 14; Settling Time(us): 7; SubFamily: Precision DAC (=<10MSPS); DatasheetVersion: SLAS719D; PackageVersion: 4073272/C, 02/2004; PackageReference: DGS10; PackageDescription: 10-Pin Plastic Small Outline, Body 3 x 3 mm, Pitch 0.5 mm; Supplier 1: Digi-Key; Supplier Part Number 1: DAC8162SDGST-ND; Supplier 2: Newark; Supplier Part Number 2: 51T4334; Supplier 3: Mouser; Supplier Part Number 3: 595-DAC8162SDGST; Eco-Plan: Green (RoHS & no Sb/Br); Mounting Technology: Surface Mount; Code_JEDEC: MO-153; ComponentLink1Description: Manufacturer URL; ComponentLink1URL: http://www.ti.com/; ComponentLink2Description: Datasheet; ComponentLink2URL: http://www.ti.com/general/docs/lit/getliterature.tsp?genericPartNumber=DAC8162&fileType=pdf; ComponentLink3Description: Package Specification; ComponentLink3URL: http://www.ti.com/lit/ml/mpds035b/mpds035b.pdf
footprint TI-DGS10_N (SOP, 10-Leads, Body 3x3mm, Pitch 0.5mm, IPC Medium Density)
footprint TI-DGS10_L (SOP, 10-Leads, Body 3x3mm, Pitch 0.5mm, IPC High Density)
footprint TI-DGS10_M (SOP, 10-Leads, Body 3x3mm, Pitch 0.5mm, IPC Low Density)
pins: 1 VOUTA (out) "Analog output voltage from DAC-A", 2 VOUTB (out) "Analog output voltage from DAC-B", 3 GND (power) "Ground reference point for all circuitry on the device", 4 ~{LDAC} (in) "In synchronous mode, data are updated with the falling edge of the 24th SCLK cycle, which follows a falling edge of S\Y\N\C\. For such synchronous updates, the L\D\A\C\ pin is not required, and it must be connected to GND (See Datasheet)", 5 ~{CLR} (in) "Asynchronous clear input. The C\L\R\ input is falling-edge sensitive. When C\L\R\ is activated, zero scale (DACxx62) or mid-scale (DACxx63) is loaded to all input and DAC registers. This sets the DAC output voltages (See Datasheet)", 6 ~{SYNC} (in) "Level-triggered control input (active-low). This input is the frame synchronization signal for the input data. When S\Y\N\C\ goes low, it enables the input shift register, and data are sampled on subsequent falling clock (See Datasheet)", 7 SCLK (in) "Serial clock input. Data can be transferred at rates up to 50 MHz. Schmitt-trigger logic input", 8 DIN (in) "Serial data input. Data are clocked into the 24-bit input shift register on each falling edge of the serial clock input. Schmitt-trigger logic input", 9 AVDD (power) "Power-supply input, 2.7 V to 5.5 V", 10 VREFIN/VREFOUT (io) "Bidirectional voltage reference pin. If internal reference is used, 2.5-V output."

## DAC8162SDSCR
designator U?
14-Bit, Dual, Low Power, Ultra-Low Glitch, Buffered Voltage Output DAC with 2.5 V, 4 ppm/degC Reference, -40 to 125 degC, 10-pin SON (DSC10), Green (RoHS & no Sb/Br); Manufacturer: Texas Instruments; PartNumber: DAC8162SDSCR; DAC Channels: 2; DNL(Max)(+/-LSB): 0.5; INL(Max)(+/-LSB): 3; Interface: Serial SPI; Power Consumption(Typ)(mW): 0.9; Resolution(Bits): 14; Settling Time(us): 7; SubFamily: Precision DAC (=<10MSPS); DatasheetVersion: SLAS719D; PackageVersion: 4207383/E, 01/2011; PackageReference: DSC10-2550X1050TP; PackageDescription: 10-Pin Plastic Small Outline No-Lead, Body 3 x 3 mm, Pitch 0.5 mm; Supplier 1: Digi-Key; Supplier Part Number 1: 296-29027-2-ND; Supplier 2: Digi-Key; Supplier Part Number 2: 296-29027-1-ND; Supplier 3: Digi-Key; Supplier Part Number 3: 296-29027-6-ND; Supplier 4: Mouser; Supplier Part Number 4: 595-DAC8162SDSCR; Eco-Plan: Green (RoHS & no Sb/Br); Mounting Technology: Surface Mount; ComponentLink1Description: Manufacturer URL; ComponentLink1URL: http://www.ti.com/; ComponentLink2Description: Datasheet; ComponentLink2URL: http://www.ti.com/general/docs/lit/getliterature.tsp?genericPartNumber=DAC8162&fileType=pdf; ComponentLink3Description: Package Specification; ComponentLink3URL: http://www.ti.com/litv/pdf/mpds239d
footprint TI-DSC10-2550X1050TP_V (SON, 10-Leads, Body 3x3mm, Pitch 0.5mm, Thermal Pad 2.91x1.05mm)
pins: 1 VOUTA (out) "Analog output voltage from DAC-A", 2 VOUTB (out) "Analog output voltage from DAC-B", 3 GND (power) "Ground reference point for all circuitry on the device", 4 ~{LDAC} (in) "In synchronous mode, data are updated with the falling edge of the 24th SCLK cycle, which follows a falling edge of S\Y\N\C\. For such synchronous updates, the L\D\A\C\ pin is not required, and it must be connected to GND (See Datasheet)", 5 ~{CLR} (in) "Asynchronous clear input. The C\L\R\ input is falling-edge sensitive. When C\L\R\ is activated, zero scale (DACxx62) or mid-scale (DACxx63) is loaded to all input and DAC registers. This sets the DAC output voltages (See Datasheet)", 6 ~{SYNC} (in) "Level-triggered control input (active-low). This input is the frame synchronization signal for the input data. When S\Y\N\C\ goes low, it enables the input shift register, and data are sampled on subsequent falling clock (See Datasheet)", 7 SCLK (in) "Serial clock input. Data can be transferred at rates up to 50 MHz. Schmitt-trigger logic input", 8 DIN (in) "Serial data input. Data are clocked into the 24-bit input shift register on each falling edge of the serial clock input. Schmitt-trigger logic input", 9 AVDD (power) "Power-supply input, 2.7 V to 5.5 V", 10 VREFIN/VREFOUT (io) "Bidirectional voltage reference pin. If internal reference is used, 2.5-V output.", 11 EP (power) "It is recommended to connect the thermal pad to the ground plane for better thermal dissipation."

## DAC8162SDSCT
designator U?
14-Bit, Dual, Low Power, Ultra-Low Glitch, Buffered Voltage Output DAC with 2.5 V, 4 ppm/degC Reference, -40 to 125 degC, 10-pin SON (DSC10), Green (RoHS & no Sb/Br); Manufacturer: Texas Instruments; PartNumber: DAC8162SDSCT; DAC Channels: 2; DNL(Max)(+/-LSB): 0.5; INL(Max)(+/-LSB): 3; Interface: Serial SPI; Power Consumption(Typ)(mW): 0.9; Resolution(Bits): 14; Settling Time(us): 7; SubFamily: Precision DAC (=<10MSPS); DatasheetVersion: SLAS719D; PackageVersion: 4207383/E, 01/2011; PackageReference: DSC10-2550X1050TP; PackageDescription: 10-Pin Plastic Small Outline No-Lead, Body 3 x 3 mm, Pitch 0.5 mm; Supplier 1: Digi-Key; Supplier Part Number 1: 296-29096-2-ND; Supplier 2: Digi-Key; Supplier Part Number 2: 296-29096-1-ND; Supplier 3: Digi-Key; Supplier Part Number 3: 296-29096-6-ND; Supplier 4: Farnell; Supplier Part Number 4: 1924803; Supplier 5: Newark; Supplier Part Number 5: 51T4335; Supplier 6: Mouser; Supplier Part Number 6: 595-DAC8162SDSCT; Eco-Plan: Green (RoHS & no Sb/Br); Mounting Technology: Surface Mount; ComponentLink1Description: Manufacturer URL; ComponentLink1URL: http://www.ti.com/; ComponentLink2Description: Datasheet; ComponentLink2URL: http://www.ti.com/general/docs/lit/getliterature.tsp?genericPartNumber=DAC8162&fileType=pdf; ComponentLink3Description: Package Specification; ComponentLink3URL: http://www.ti.com/litv/pdf/mpds239d
footprint TI-DSC10-2550X1050TP_V (SON, 10-Leads, Body 3x3mm, Pitch 0.5mm, Thermal Pad 2.91x1.05mm)
pins: 1 VOUTA (out) "Analog output voltage from DAC-A", 2 VOUTB (out) "Analog output voltage from DAC-B", 3 GND (power) "Ground reference point for all circuitry on the device", 4 ~{LDAC} (in) "In synchronous mode, data are updated with the falling edge of the 24th SCLK cycle, which follows a falling edge of S\Y\N\C\. For such synchronous updates, the L\D\A\C\ pin is not required, and it must be connected to GND (See Datasheet)", 5 ~{CLR} (in) "Asynchronous clear input. The C\L\R\ input is falling-edge sensitive. When C\L\R\ is activated, zero scale (DACxx62) or mid-scale (DACxx63) is loaded to all input and DAC registers. This sets the DAC output voltages (See Datasheet)", 6 ~{SYNC} (in) "Level-triggered control input (active-low). This input is the frame synchronization signal for the input data. When S\Y\N\C\ goes low, it enables the input shift register, and data are sampled on subsequent falling clock (See Datasheet)", 7 SCLK (in) "Serial clock input. Data can be transferred at rates up to 50 MHz. Schmitt-trigger logic input", 8 DIN (in) "Serial data input. Data are clocked into the 24-bit input shift register on each falling edge of the serial clock input. Schmitt-trigger logic input", 9 AVDD (power) "Power-supply input, 2.7 V to 5.5 V", 10 VREFIN/VREFOUT (io) "Bidirectional voltage reference pin. If internal reference is used, 2.5-V output.", 11 EP (power) "It is recommended to connect the thermal pad to the ground plane for better thermal dissipation."

## DAC8163SDGSR
designator U?
14-Bit, Dual, Low Power, Ultra-Low Glitch, Buffered Voltage Output DAC with 2.5 V, 4 ppm/degC Reference, -40 to 125 degC, 10-pin SOP (DGS10), Green (RoHS & no Sb/Br); Manufacturer: Texas Instruments; PartNumber: DAC8163SDGSR; DAC Channels: 2; DNL(Max)(+/-LSB): 0.5; INL(Max)(+/-LSB): 3; Interface: Serial SPI; Power Consumption(Typ)(mW): 0.9; Resolution(Bits): 14; Settling Time(us): 7; SubFamily: Precision DAC (=<10MSPS); DatasheetVersion: SLAS719D; PackageVersion: 4073272/C, 02/2004; PackageReference: DGS10; PackageDescription: 10-Pin Plastic Small Outline, Body 3 x 3 mm, Pitch 0.5 mm; Supplier 1: Digi-Key; Supplier Part Number 1: 296-29028-2-ND; Supplier 2: Digi-Key; Supplier Part Number 2: 296-29028-1-ND; Supplier 3: Digi-Key; Supplier Part Number 3: 296-29028-6-ND; Supplier 4: Mouser; Supplier Part Number 4: 595-DAC8163SDGSR; Eco-Plan: Green (RoHS & no Sb/Br); Mounting Technology: Surface Mount; Code_JEDEC: MO-153; ComponentLink1Description: Manufacturer URL; ComponentLink1URL: http://www.ti.com/; ComponentLink2Description: Datasheet; ComponentLink2URL: http://www.ti.com/general/docs/lit/getliterature.tsp?genericPartNumber=DAC8163&fileType=pdf; ComponentLink3Description: Package Specification; ComponentLink3URL: http://www.ti.com/lit/ml/mpds035b/mpds035b.pdf
footprint TI-DGS10_N (SOP, 10-Leads, Body 3x3mm, Pitch 0.5mm, IPC Medium Density)
footprint TI-DGS10_L (SOP, 10-Leads, Body 3x3mm, Pitch 0.5mm, IPC High Density)
footprint TI-DGS10_M (SOP, 10-Leads, Body 3x3mm, Pitch 0.5mm, IPC Low Density)
pins: 1 VOUTA (out) "Analog output voltage from DAC-A", 2 VOUTB (out) "Analog output voltage from DAC-B", 3 GND (power) "Ground reference point for all circuitry on the device", 4 ~{LDAC} (in) "In synchronous mode, data are updated with the falling edge of the 24th SCLK cycle, which follows a falling edge of S\Y\N\C\. For such synchronous updates, the L\D\A\C\ pin is not required, and it must be connected to GND (See Datasheet)", 5 ~{CLR} (in) "Asynchronous clear input. The C\L\R\ input is falling-edge sensitive. When C\L\R\ is activated, zero scale (DACxx62) or mid-scale (DACxx63) is loaded to all input and DAC registers. This sets the DAC output voltages (See Datasheet)", 6 ~{SYNC} (in) "Level-triggered control input (active-low). This input is the frame synchronization signal for the input data. When S\Y\N\C\ goes low, it enables the input shift register, and data are sampled on subsequent falling clock (See Datasheet)", 7 SCLK (in) "Serial clock input. Data can be transferred at rates up to 50 MHz. Schmitt-trigger logic input", 8 DIN (in) "Serial data input. Data are clocked into the 24-bit input shift register on each falling edge of the serial clock input. Schmitt-trigger logic input", 9 AVDD (power) "Power-supply input, 2.7 V to 5.5 V", 10 VREFIN/VREFOUT (io) "Bidirectional voltage reference pin. If internal reference is used, 2.5-V output."